# Altium schematic symbol library LSM6DS.SchLib: 2 symbols
Pins are listed as number, name and electrical type; pins without a type are passive.

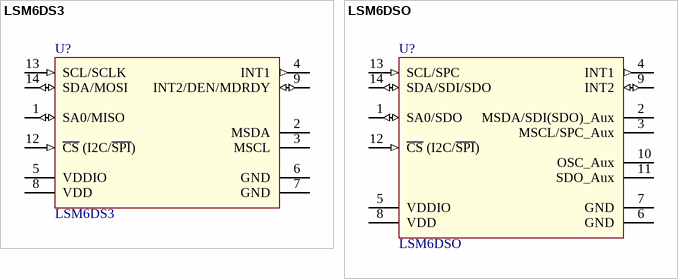
[diagram p0: symbols LSM6DS3 to LSM6DSO]

## LSM6DS3
designator U?
iNEMO inertial module: / always-on 3D accelerometer and 3D gyroscope; value: LSM9DS3
footprint LGA-14 (2.5x3.0x0.86) (Land Grid Array Package)
pins: 1 SA0/MISO (io), 2 MSDA, 3 MSCL, 4 INT1 (out), 5 VDDIO, 6 GND (power), 7 GND (power), 8 VDD (power), 9 INT2/DEN/MDRDY (io), 12 ~{CS} (I2C/~{SPI}) (in), 13 SCL/SCLK (in), 14 SDA/MOSI (io)

## LSM6DSO
designator U?
iNEMO inertial module: / always-on 3D accelerometer and 3D gyroscope; value: LSM6DSO
footprint LGA-14 (2.5x3.0x0.86) (Land Grid Array Package)
pins: 1 SA0/SDO (io), 2 MSDA/SDI(SDO)_Aux, 3 MSCL/SPC_Aux, 4 INT1 (out), 5 VDDIO, 6 GND (power), 7 GND (power), 8 VDD (power), 9 INT2 (io), 10 OSC_Aux, 11 SDO_Aux, 12 ~{CS} (I2C/~{SPI}) (in), 13 SCL/SPC (in), 14 SDA/SDI/SDO (io)